# Altium footprint library RayPCB20210502.PcbLib: 231 footprints (part 10 of 15)
Each footprint in its own frame and in the unit in brackets; x right, y up, seen from the top. Pads: shape width x height; smd on the part's side, far side on the other; paste and mask are expansions set on the pad; w line width, h text height; cw(c..) or ccw(c..) is an arc to the next point about the centre after c.
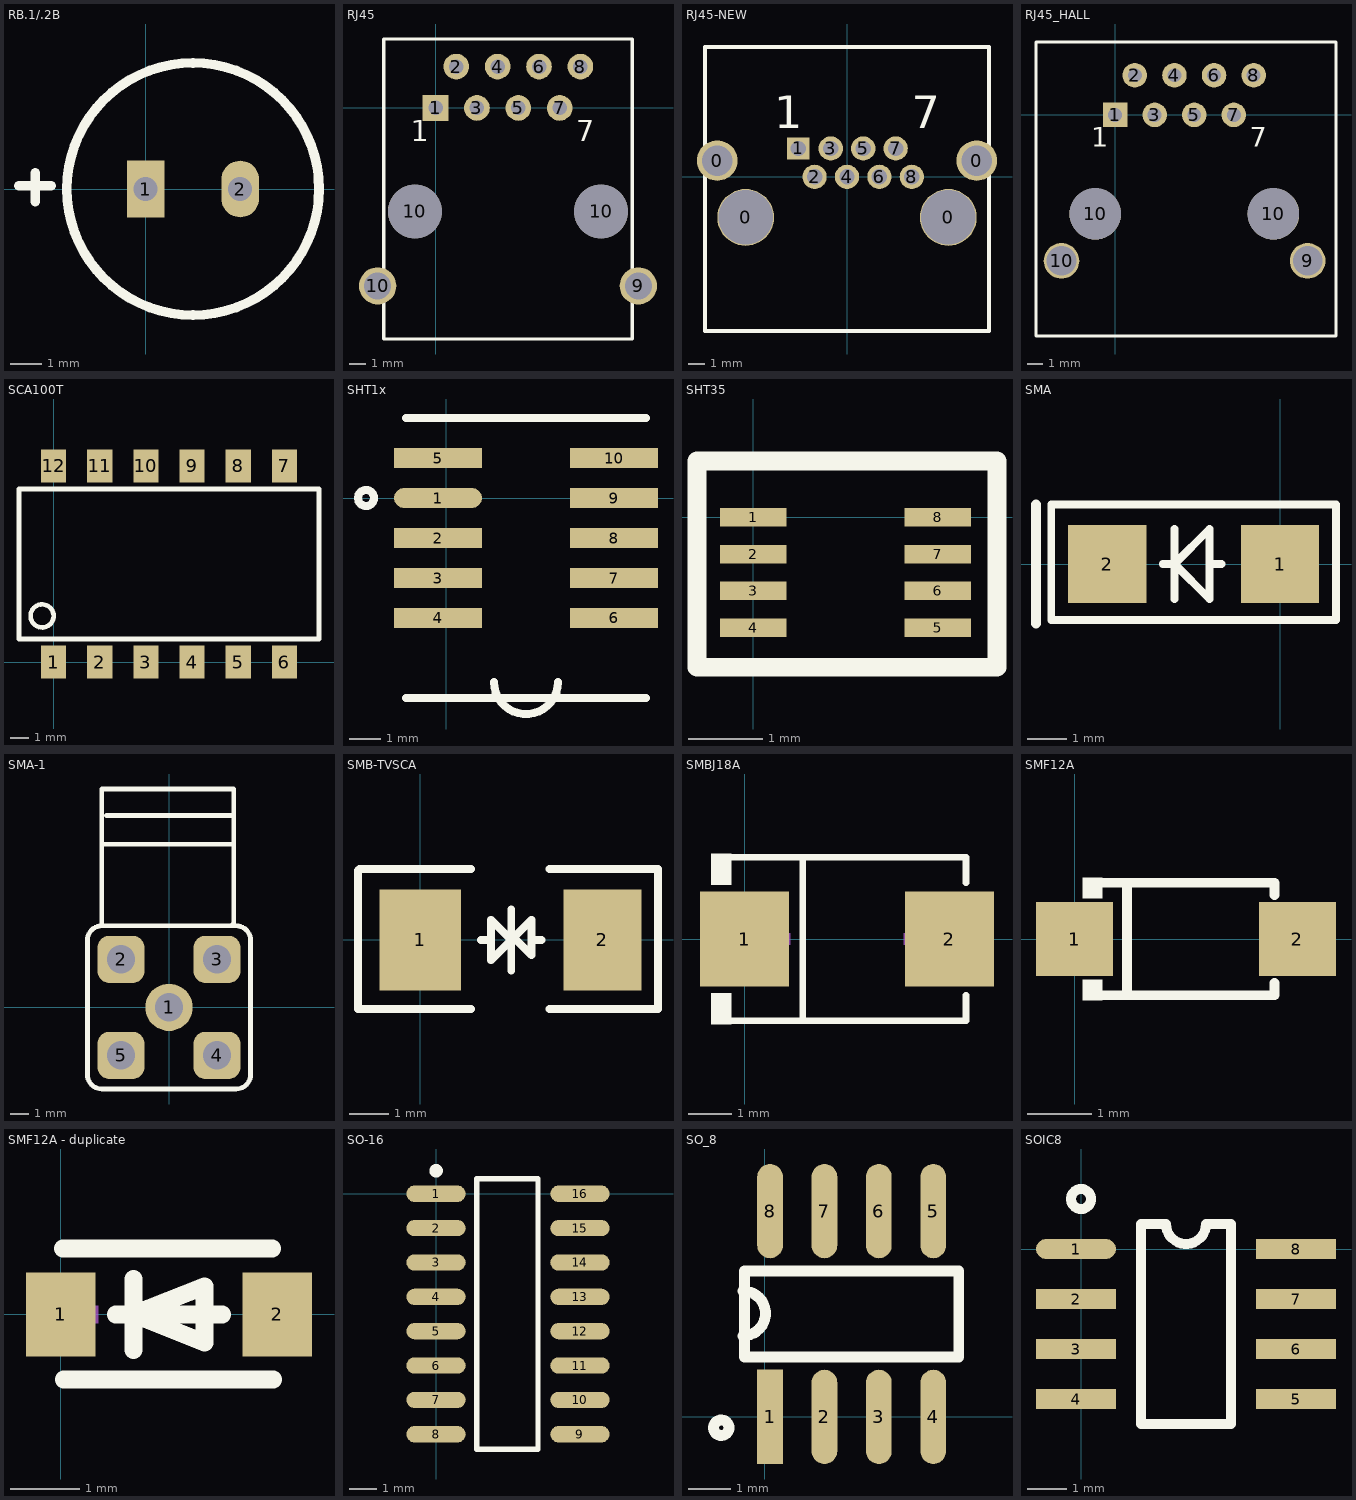
[diagram p9: the footprints below, top view; thin cyan lines are the x and y axes]

## RB.1/.2B [mm]
pads (2):
  rect 1.2x1.8 hole 0.76: 1(0,0)
  oval 1.2x1.8 hole 0.76: 2(3,0)
Top Overlay:
  circle w0.305: c1.5,0 r4
  lines w0.305: -4.02,0.1 -3.004,0.1 ; -3.5,-0.4 -3.5,0.508

## RJ45 [mil]
pads (12):
  rect 62x62 hole 35: 1(0,0)
  round 62 hole 35: 2(50,100) 3(100,0) 4(150,100) 5(200,0) 6(250,100) 7(300,0) 8(350,100)
  round 90 hole 65: 9(490,-430) 10(-139.92,-430)
  round 129.92 hole 129.92: 10(-50,-250) 10(400,-250)
Top Overlay:
  lines w8: -125,-558.33 -125,166.67 475,166.67 475,-558.33 -125,-558.33
  text "1" at -60,-80 h50
  text "7" at 340,-80 h50

## RJ45-NEW [mil]
pads (12):
  round 100 hole 75: 0(-320,40) 0(320,40)
  round 140 hole 135: 0(-250,-100) 0(250,-100)
  rect 55x55 hole 38: 1(-120,70)
  round 60 hole 38: 2(-80,0) 3(-40,70) 4(0,0) 5(40,70) 6(80,0) 7(120,70) 8(160,0)
Top Overlay:
  lines w10: -350,-380 350,-380 350,320 -350,320 -350,-380
  text "1" at -180,120 h80
  text "7" at 160,120 h80

## RJ45_HALL [mil]
pads (12):
  rect 62x62 hole 35: 1(0,0)
  round 62 hole 35: 2(50,100) 3(100,0) 4(150,100) 5(200,0) 6(250,100) 7(300,0) 8(350,100)
  round 90 hole 75: 9(486.22,-368.5) 10(-135.19,-368.5)
  round 129.92 hole 129.92: 10(-50,-250) 10(400,-250)
Top Overlay:
  lines w8: -199.61,-558.33 -199.61,184.25 557.87,184.25 557.87,-558.33 -199.61,-558.33
  text "1" at -60,-80 h50
  text "7" at 340,-80 h50

## SCA100T [mm]
pads (12):
  rect 1.39x1.81 smd: 1(0,0) 2(2.54,0) 3(5.08,0) 4(7.62,0) 5(10.16,0) 6(12.7,0) 7(12.7,10.795) 8(10.16,10.795) 9(7.62,10.795) 10(5.08,10.795) 11(2.54,10.795) 12(0,10.795)
Top Overlay:
  circle w0.254: c-0.635,2.54 r0.635
  lines w0.254: -1.905,1.27 -1.905,9.525 14.605,9.525 14.605,1.27 -1.905,1.27

## SHT1x [mil] "WetTempSensor SHT1x Series"
pads (10):
  oval 110x25 smd: 1(-10,0)
  rect 110x25 smd: 2(-10,-50) 3(-10,-100) 4(-10,-150) 5(-10,50) 6(210,-150) 7(210,-100) 8(210,-50) 9(210,0) 10(210,50)
Top Overlay:
  circle w10: c-100,0 r10
  lines w10: -50,-250 250,-250 ; -50,100 250,100 ; 60,-230 ccw(c100,-230) 140,-230

## SHT35 [mm]
pads (8):
  rect 0.9x0.25 smd: 1(0,0) 2(0,-0.5) 3(0,-1) 4(0,-1.5) 5(2.5,-1.5) 6(2.5,-1) 7(2.5,-0.5) 8(2.5,0)
Top Overlay:
  lines w0.254: -0.762,-2.032 -0.762,0.762 3.302,0.762 3.302,-2.032 -0.762,-2.032

## SMA [mm] "RS1M"
pads (2):
  rect 2x2 smd: 1(0,0) 2(-4.42,0)
Top Overlay:
  lines w0.203: -3,0 -2.7,0 ; -2.7,-0.9 -2.7,0.9 ; -1.8,0 -1.5,0 ; -2.7,0 -1.8,-0.9 -1.8,0.9 -2.7,0 ; -5.85,-1.43 -5.85,1.524 1.43,1.524 1.43,-1.43 -5.85,-1.43
  lines w0.254: -6.24,-1.524 -6.24,1.524

## SMA-1 [mm]
pads (5):
  round 2.5 hole 1.5: 1(0,0)
  rrect50% 2.5x2.5 hole 1.5: 2(-2.54,2.54) 3(2.54,2.54) 4(2.54,-2.54) 5(-2.54,-2.54)
Top Overlay:
  lines w0.254: -3.429,8.636 3.429,8.636 ; -3.302,10.16 3.429,10.16 ; 3.302,4.318 3.429,4.445 3.429,11.557 -3.556,11.557 -3.556,4.318 ; -3.556,4.318 ccw(c-3.556,3.556) -4.318,3.556 -4.318,-3.556 ccw(c-3.556,-3.556) -3.556,-4.318 3.556,-4.318 ccw(c3.556,-3.556) 4.318,-3.556 4.318,3.556 ccw(c3.556,3.556) 3.556,4.318 -3.556,4.318

## SMB-TVSCA [mm]
pads (2):
  rect 2.1x2.6 smd: 1(0,0)
  rect 2x2.6 smd: 2(4.68,0)
Top Overlay:
  lines w0.2: 1.304,-1.775 -1.596,-1.775 -1.596,1.784 -1.555,1.825 1.304,1.825 ; 3.323,-1.775 6.11,-1.775 6.11,1.825 3.323,1.825
  lines w0.203: 1.56,0 1.82,0 ; 2.34,-0.78 2.34,0.78 ; 2.86,0 3.12,0 ; 2.34,0 2.47,0 2.86,-0.39 2.86,0.52 2.34,0 ; 2.34,0 2.34,0 ; 2.34,0 1.82,-0.52 1.82,0.52 2.34,0

## SMBJ18A [mil] "DO-214AA"
pads (2):
  rect 80.61x86.31 smd: 1(0,0) 2(185.89,0)
Top Overlay:
  region: -12.08,-77.26 -12.08,-49.16 -30.08,-49.16 -30.08,-77.26
  region: -12.08,77.26 -12.08,49.16 -30.08,49.16 -30.08,77.26
  lines w5.98: 52.94,-74.26 52.94,74.26
  lines w6: -15.08,-74.26 200.96,-74.26 200.96,-51.16 ; -15.08,74.26 200.96,74.26 200.96,51.16
Mechanical 15:
  region: 171.24,-35.63 171.24,35.63 160.55,35.63 160.55,-35.63
  region: 187.27,-5.34 187.27,5.34 144.52,5.34 144.52,-5.34
  region: -1.39,-5.34 -1.39,5.34 41.37,5.34 41.37,-5.34

## SMF12A [mm] "SOD-123"
pads (2):
  rect 1.2x1.15 smd: 1(0,0) 2(3.47,0)
Top Overlay:
  region: 0.435,-0.952 0.435,-0.632 0.13,-0.632 0.13,-0.952
  region: 0.435,0.952 0.435,0.632 0.13,0.632 0.13,0.952
  lines w0.152: 0.359,-0.876 3.111,-0.876 3.111,-0.683 ; 0.359,0.876 3.111,0.876 3.111,0.683 ; 0.818,-0.876 0.818,0.876
Mechanical 15:
  region: 3.482,-0.384 3.29,-0.384 3.29,0.384 3.482,0.384
  region: 3.77,0.096 3.77,-0.096 3.002,-0.096 3.002,0.096
  region: -0.297,0.127 -0.297,-0.065 0.471,-0.065 0.471,0.127

## SMF12A - duplicate [mm] "SOD123F"
pads (2):
  rect 1x1.2 smd: 1(0,0) 2(3.1,0)
Top Overlay:
  lines w0.254: 0.03,0.947 3.03,0.947 ; 0.043,-0.933 3.043,-0.933 ; 0.788,0 2.312,0 ; 1.042,-0.508 1.042,0.508 ; 1.042,0 2.058,0.406 2.058,-0.406 1.042,0
Mechanical 15:
  region: 2.693,0.127 3.582,0.127 3.582,-0.127 2.693,-0.127
  region: 3.021,-0.436 3.021,0.453 3.275,0.453 3.275,-0.436
  region: -0.355,0.127 0.534,0.127 0.534,-0.127 -0.355,-0.127

## SO-16 [mm]
pads (16):
  oval 2.2x0.6 smd: 1(0,0) 2(0,-1.27) 3(0,-2.54) 4(0,-3.81) 5(0,-5.08) 6(0,-6.35) 7(0,-7.62) 8(0,-8.89) 9(5.32,-8.89) 10(5.32,-7.62) 11(5.32,-6.35) 12(5.32,-5.08) 13(5.32,-3.81) 14(5.32,-2.54) 15(5.32,-1.27) 16(5.32,0)
Top Overlay:
  circle w0.25: c0,0.85 r0.125
  lines w0.2: 1.5,-9.445 1.5,0.555 3.77,0.555 3.77,-9.445 1.5,-9.445

## SO_8 [mm] "MAX3485ESA"
pads (8):
  rect 0.6x2.2 smd: 1(0.122,0)
  oval 0.6x2.2 smd: 2(1.392,0) 3(2.662,0) 4(3.932,0) 5(3.932,4.8) 6(2.662,4.8) 7(1.392,4.8) 8(0.122,4.8)
Top Overlay:
  circle w0.254: c-1.016,-0.254 r0.18
  lines w0.254: -0.508,1.889 ccw(c-0.508,2.413) -0.508,2.937 ; -0.473,1.4 -0.473,3.4 4.527,3.4 4.527,1.4 -0.473,1.4

## SOIC8 [mil]
pads (8):
  oval 80x20 smd: 1(-5,0)
  rect 80x20 smd: 2(-5,-50) 3(-5,-100) 4(-5,-150) 5(215,-150) 6(215,-100) 7(215,-50) 8(215,0)
Top Overlay:
  circle w10: c0,50 r10
  lines w10: 60,-175 60,25 85,25 ccw(c105,25) 125,25 150,25 150,-175 60,-175